# Altium footprint library Connectors_USB.PcbLib: 3 footprints
Each footprint in its own frame and in the unit in brackets; x right, y up, seen from the top. Pads: shape width x height; smd on the part's side, far side on the other; paste and mask are expansions set on the pad; w line width, h text height; cw(c..) or ccw(c..) is an arc to the next point about the centre after c.
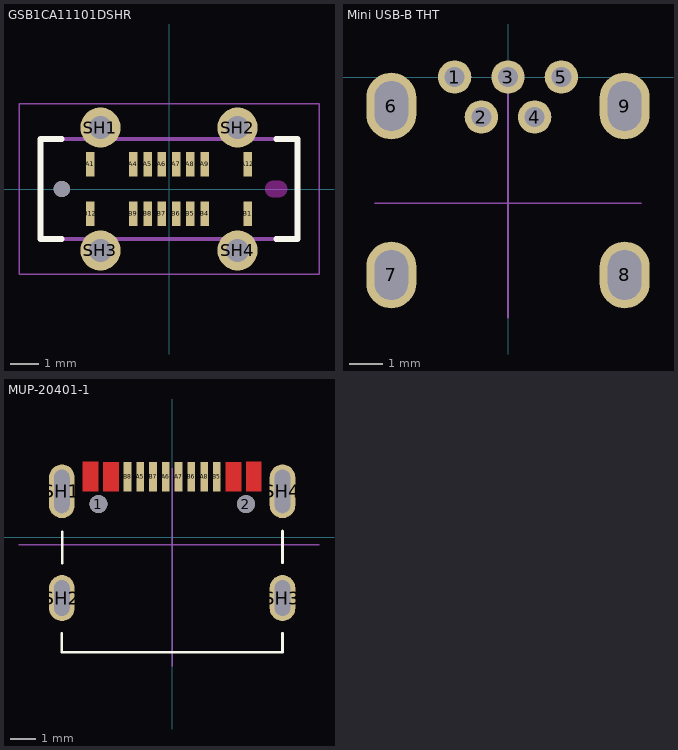
[diagram p0: the footprints below, top view; thin cyan lines are the x and y axes]

## GSB1CA11101DSHR [mm] "USB-C (USB TYPE-C) USB 2.0 Receptacle Connector 24 (16+8 Dummy) Position Surface Mount, Through Hole"
pads (21):
  rect 0.3x0.87 smd mask+0.01: A1(-2.75,0.865) A4(-1.25,0.865) A5(-0.75,0.865) A6(-0.25,0.865) A7(0.25,0.865) A8(0.75,0.865) A9(1.25,0.865) A12(2.75,0.865) B1(2.75,-0.865) B4(1.25,-0.865) B5(0.75,-0.865) B6(0.25,-0.865) B7(-0.25,-0.865) B8(-0.75,-0.865) B9(-1.25,-0.865) B12(-2.75,-0.865)
  round 1.4 hole 0.8 mask+0.025: SH1(-2.4,2.15) SH2(2.4,2.15) SH3(-2.4,-2.15) SH4(2.4,-2.15)
  round 0.57 hole 0.57 unplated: ""(-3.75,0)
Top Overlay:
  lines w0.2: -3.75,-1.75 -4.5,-1.75 -4.5,1.5 -4.5,1.75 -3.75,1.75 ; 3.75,-1.75 4.5,-1.75 4.5,1.75 3.75,1.75
Top Solder:
  region: 3.87,0.384 3.89,0.383 3.91,0.38 3.93,0.377 3.95,0.372 3.969,0.366 3.988,0.359 4.007,0.352 4.025,0.343 4.043,0.333 4.06,0.323 4.076,0.311 4.092,0.299 4.108,0.286 4.122,0.272 4.136,0.258 4.149,0.242 4.161,0.226 4.173,0.21 4.183,0.192 4.193,0.175 4.202,0.157 4.209,0.138 4.216,0.119 4.222,0.1 4.227,0.08 4.23,0.06 4.233,0.04 4.234,0.02 4.235,0 4.234,-0.02 4.233,-0.04 4.23,-0.06 4.227,-0.08 4.222,-0.1 4.216,-0.119 4.209,-0.138 4.202,-0.157 4.193,-0.175 4.183,-0.192 4.173,-0.21 4.161,-0.226 4.149,-0.242 4.136,-0.258 4.122,-0.272 4.108,-0.286 4.092,-0.299 4.076,-0.311 4.06,-0.323 4.043,-0.333 4.025,-0.343 4.007,-0.352 3.988,-0.359 3.969,-0.366 3.95,-0.372 3.93,-0.377 3.91,-0.38 3.89,-0.383 3.87,-0.384 3.85,-0.385 3.65,-0.385 3.63,-0.384 3.61,-0.383 3.59,-0.38 3.57,-0.377 3.55,-0.372 3.531,-0.366 3.512,-0.359 3.493,-0.352 3.475,-0.343 3.457,-0.333 3.44,-0.323 3.424,-0.311 3.408,-0.299 3.392,-0.286 3.378,-0.272 3.364,-0.258 3.351,-0.242 3.339,-0.226 3.327,-0.21 3.317,-0.193 3.307,-0.175 3.298,-0.157 3.291,-0.138 3.284,-0.119 3.278,-0.1 3.273,-0.08 3.27,-0.06 3.267,-0.04 3.266,-0.02 3.265,0 3.266,0.02 3.267,0.04 3.27,0.06 3.273,0.08 3.278,0.1 3.284,0.119 3.291,0.138 3.298,0.157 3.307,0.175 3.317,0.192 3.327,0.21 3.339,0.226 3.351,0.242 3.364,0.258 3.378,0.272 3.392,0.286 3.408,0.299 3.424,0.311 3.44,0.323 3.458,0.333 3.475,0.343 3.493,0.352 3.512,0.359 3.531,0.366 3.55,0.372 3.57,0.377 3.59,0.38 3.61,0.383 3.63,0.384 3.65,0.385 3.85,0.385
Bottom Solder:
  region: 3.87,0.384 3.89,0.383 3.91,0.38 3.93,0.377 3.95,0.372 3.969,0.366 3.988,0.359 4.007,0.352 4.025,0.343 4.043,0.333 4.06,0.323 4.076,0.311 4.092,0.299 4.108,0.286 4.122,0.272 4.136,0.258 4.149,0.242 4.161,0.226 4.173,0.21 4.183,0.192 4.193,0.175 4.202,0.157 4.209,0.138 4.216,0.119 4.222,0.1 4.227,0.08 4.23,0.06 4.233,0.04 4.234,0.02 4.235,0 4.234,-0.02 4.233,-0.04 4.23,-0.06 4.227,-0.08 4.222,-0.1 4.216,-0.119 4.209,-0.138 4.202,-0.157 4.193,-0.175 4.183,-0.192 4.173,-0.21 4.161,-0.226 4.149,-0.242 4.136,-0.258 4.122,-0.272 4.108,-0.286 4.092,-0.299 4.076,-0.311 4.06,-0.323 4.043,-0.333 4.025,-0.343 4.007,-0.352 3.988,-0.359 3.969,-0.366 3.95,-0.372 3.93,-0.377 3.91,-0.38 3.89,-0.383 3.87,-0.384 3.85,-0.385 3.65,-0.385 3.63,-0.384 3.61,-0.383 3.59,-0.38 3.57,-0.377 3.55,-0.372 3.531,-0.366 3.512,-0.359 3.493,-0.352 3.475,-0.343 3.457,-0.333 3.44,-0.323 3.424,-0.311 3.408,-0.299 3.392,-0.286 3.378,-0.272 3.364,-0.258 3.351,-0.242 3.339,-0.226 3.327,-0.21 3.317,-0.193 3.307,-0.175 3.298,-0.157 3.291,-0.138 3.284,-0.119 3.278,-0.1 3.273,-0.08 3.27,-0.06 3.267,-0.04 3.266,-0.02 3.265,0 3.266,0.02 3.267,0.04 3.27,0.06 3.273,0.08 3.278,0.1 3.284,0.119 3.291,0.138 3.298,0.157 3.307,0.175 3.317,0.192 3.327,0.21 3.339,0.226 3.351,0.242 3.364,0.258 3.378,0.272 3.392,0.286 3.408,0.299 3.424,0.311 3.44,0.323 3.458,0.333 3.475,0.343 3.493,0.352 3.512,0.359 3.531,0.366 3.55,0.372 3.57,0.377 3.59,0.38 3.61,0.383 3.63,0.384 3.65,0.385 3.85,0.385
Keep-Out Layer:
  board cut-out: 3.85,0.285 3.65,0.285 3.635,0.285 3.62,0.283 3.605,0.281 3.591,0.279 3.576,0.275 3.562,0.271 3.548,0.266 3.534,0.26 3.521,0.254 3.508,0.247 3.495,0.239 3.482,0.231 3.471,0.221 3.459,0.212 3.448,0.202 3.438,0.191 3.429,0.179 3.419,0.168 3.411,0.155 3.403,0.143 3.396,0.129 3.39,0.116 3.384,0.102 3.379,0.088 3.375,0.074 3.371,0.059 3.369,0.045 3.367,0.03 3.365,0.015 3.365,0 3.365,-0.015 3.367,-0.03 3.369,-0.045 3.371,-0.059 3.375,-0.074 3.379,-0.088 3.384,-0.102 3.39,-0.116 3.396,-0.129 3.403,-0.143 3.411,-0.155 3.419,-0.168 3.429,-0.179 3.438,-0.191 3.448,-0.202 3.459,-0.212 3.471,-0.221 3.482,-0.231 3.495,-0.239 3.508,-0.247 3.521,-0.254 3.534,-0.26 3.548,-0.266 3.562,-0.271 3.576,-0.275 3.591,-0.279 3.605,-0.281 3.62,-0.283 3.635,-0.285 3.65,-0.285 3.85,-0.285 3.865,-0.285 3.88,-0.283 3.895,-0.281 3.909,-0.279 3.924,-0.275 3.938,-0.271 3.952,-0.266 3.966,-0.26 3.979,-0.254 3.992,-0.247 4.005,-0.239 4.018,-0.231 4.029,-0.221 4.041,-0.212 4.052,-0.202 4.062,-0.191 4.071,-0.179 4.081,-0.168 4.089,-0.155 4.097,-0.143 4.104,-0.129 4.11,-0.116 4.116,-0.102 4.121,-0.088 4.125,-0.074 4.129,-0.059 4.131,-0.045 4.133,-0.03 4.135,-0.015 4.135,0 4.135,0.015 4.133,0.03 4.131,0.045 4.129,0.059 4.125,0.074 4.121,0.088 4.116,0.102 4.11,0.116 4.104,0.129 4.097,0.143 4.089,0.155 4.081,0.168 4.071,0.179 4.062,0.191 4.052,0.202 4.041,0.212 4.029,0.221 4.018,0.231 4.005,0.239 3.992,0.247 3.979,0.254 3.966,0.26 3.952,0.266 3.938,0.271 3.924,0.275 3.909,0.279 3.895,0.281 3.88,0.283 3.865,0.285
Mechanical 13:
  lines w0.127: -4.5,-1.75 4.5,-1.75 4.5,1.75 -4.5,1.75 -4.5,-1.75
Mechanical 15:
  lines w0.05: -5.25,-2.975 5.25,-2.975 5.25,2.975 -5.25,2.975 -5.25,-2.975
3D body "step_temp.STEP": height 7.4, standoff -0.95, extent -5,-2.3 5,2.3

## Mini USB-B THT [mm]
pads (9):
  round 1 hole 0.6: 1(-1.6,0) 2(-0.8,-1.2) 3(0,0) 4(0.8,-1.2) 5(1.6,0)
  oval 1.5x2 hole 1 slot 1.5 at 90 deg: 6(-3.5,-0.87) 7(-3.5,-5.939) 8(3.5,-5.939) 9(3.5,-0.87)
Top Courtyard:
  lines w0.05: -4,-3.788 4,-3.788 ; 0,-7.219 0,0
Mechanical 15:
  text "NOT COMPLETE" at -6.25,-8 h1.52
3D body "XM7D-0512.STEP": height 4, standoff -1.9, extent -4.05,-9.764 4.05,0.086

## MUP-20401-1 [mm] "Connector USB TYPE - C 24 (16+8) Pin Horizontal"
pads (18):
  round 0.7 hole 0.7 unplated mask+0.01: 1(-2.89,1.303) 2(2.89,1.303)
  round 0.025 smd mask+0.01: 3(-2.4,2.375) 4(2.4,2.375) 5(-3.194,2.377) 6(3.194,2.377)
  rect 0.3x1.15 smd mask+0.06: A5(-1.25,2.378) A6(-0.25,2.378) A7(0.25,2.378) A8(1.25,2.378) B5(1.75,2.378) B6(0.75,2.378) B7(-0.75,2.378) B8(-1.75,2.378)
  oval 1x2.1 hole 0.6 slot 1.7 at 90 deg: SH1(-4.32,1.803) SH4(4.32,1.803)
  oval 1x1.8 hole 0.6 slot 1.4 at 90 deg: SH2(-4.32,-2.377) SH3(4.32,-2.377)
Top Layer:
  region: -3.495,1.802 -2.894,1.802 -2.894,2.953 -3.495,2.953
  region: 2.894,1.802 2.894,2.953 3.495,2.953 3.495,1.802
  region: 2.1,1.8 2.7,1.8 2.7,2.95 2.1,2.95
  region: -2.7,1.8 -2.7,2.95 -2.1,2.95 -2.1,1.8
Top Overlay:
  lines w0.1: -4.32,-3.75 -4.32,-4.5 4.32,-4.5 4.32,-3.75 ; -4.305,-1.022 -4.305,0.228 ; 4.32,-1 4.32,0.25
Mechanical 15:
  lines w0.05: -6,-0.288 5.75,-0.288 ; 0,-5.038 0,-0.288 0,2.712
3D body "USB4105-15-A-120.stp": height 3.26, standoff -1.2, extent -4.47,-5 4.47,2.7